# Altium integrated library BB Converter Digital to Analog.IntLib: 269 symbols (part 5 of 6)
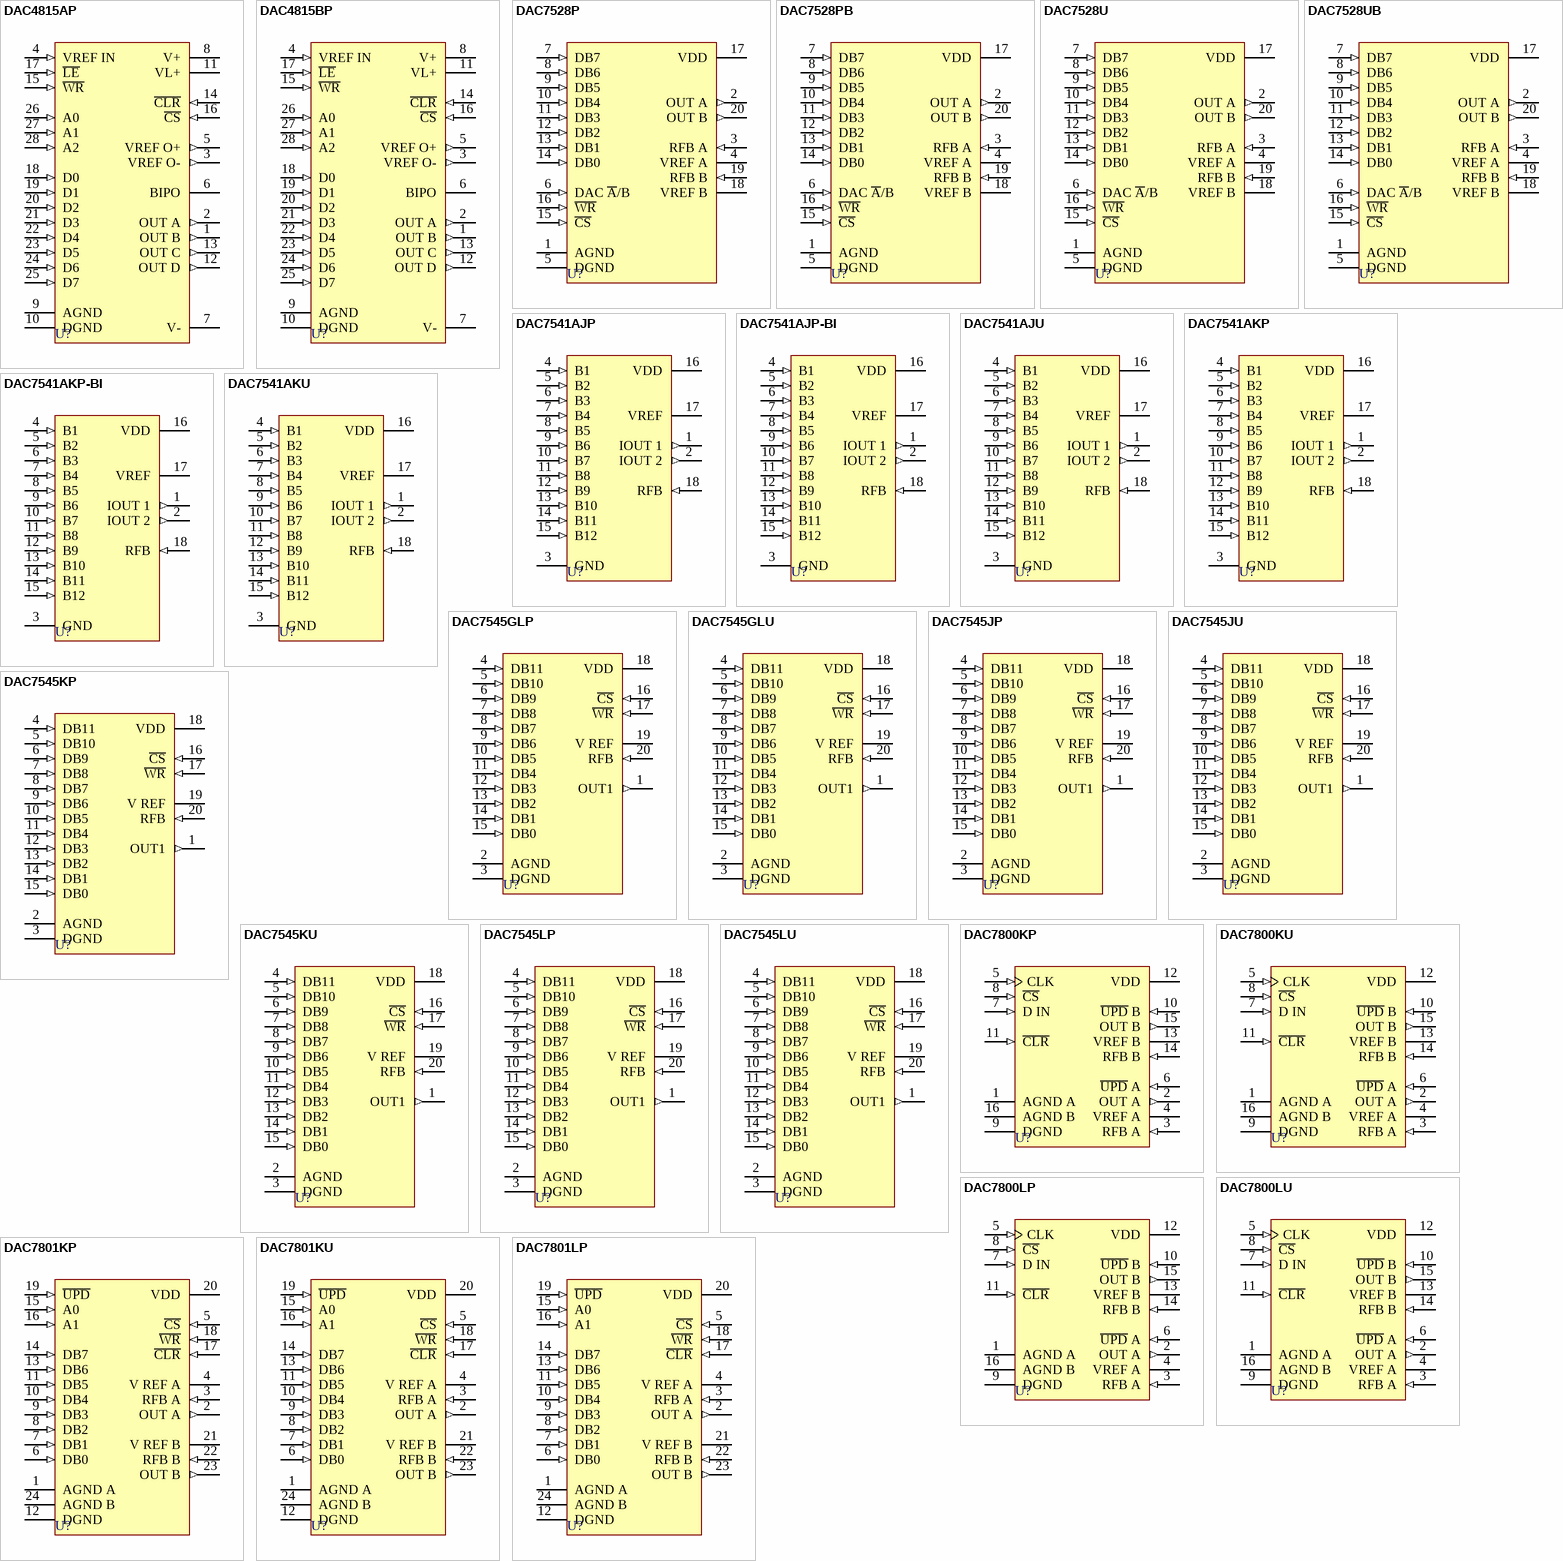
[diagram p14: symbols DAC4815AP to DAC7801LP]

## DAC7800LP
designator U?
Dual Monolithic CMOS 12-Bit Multiplying Digital-to-Analog Converters; Published: 8-Jun-2000; LatestRevisionDate: 06-Jun-2005; LatestRevisionNote: Stylized 3D Model Added.; DatasheetVersion: Jan-1998; PackageVersion: revF; PackageReference: ZZ180; Publisher: Altium Limited; PackageDescription: DIP, Plastic; 16 Leads; Row Spacing 7.62 mm; Pitch 2.54 mm; Code_JEDEC: MS-001-BB; ComponentLink1Description: Manufacturer Link; ComponentLink1URL: http://www.ti.com/; ComponentLink2Description: Datasheet; ComponentLink2URL: http://www-s.ti.com/sc/ds/DAC7800.pdf
footprint ZZ180 (DIP, Plastic; 16 Leads; Row Spacing 7.62 mm; Pitch 2.54 mm)
3D model ZZ180 (DIP, Plastic; 16 Leads; Row Spacing 7.62 mm; Pitch 2.54 mm)
pins: 1 AGND A (power), 2 OUT A (out), 3 RFB A (in), 4 VREF A, 5 CLK (in), 6 ~{UPD} A (in), 7 D IN (in), 8 ~{CS} (in), 9 DGND (power), 10 ~{UPD} B (in), 11 ~{CLR} (in), 12 VDD (power), 13 VREF B, 14 RFB B (in), 15 OUT B (out), 16 AGND B (power)

## DAC7800LU
designator U?
Dual Monolithic CMOS 12-Bit Multiplying Digital-to-Analog Converters; Published: 8-Jun-2000; LatestRevisionDate: 13-Apr-2006; LatestRevisionNote: IPC-7351 Footprint Added.; DatasheetVersion: Jan-1998; PackageReference: 211F; Publisher: Altium Limited; PackageDescription: 16-Pin Small Outline Integrated Circuit 1.27 mm Pitch; Code_JEDEC: MS-013-AA; Code_IPC: SOIC127P1030-16; ComponentLink1Description: Manufacturer Link; ComponentLink1URL: http://www.ti.com/; ComponentLink2Description: Datasheet; ComponentLink2URL: http://www-s.ti.com/sc/ds/DAC7800.pdf
footprint 211F_N (SOIC, 16-Leads, Body 10.3x7.5mm, Pitch 1.27mm, IPC Medium Density)
footprint 211F_L (SOIC, 16-Leads, Body 10.3x7.5mm, Pitch 1.27mm, IPC High Density)
footprint 211F_M (SOIC, 16-Leads, Body 10.3x7.5mm, Pitch 1.27mm, IPC Low Density)
3D model SOIC16 (16-Pin Small Outline Integrated Circuit 1.27 mm Pitch)
pins: 1 AGND A (power), 2 OUT A (out), 3 RFB A (in), 4 VREF A, 5 CLK (in), 6 ~{UPD} A (in), 7 D IN (in), 8 ~{CS} (in), 9 DGND (power), 10 ~{UPD} B (in), 11 ~{CLR} (in), 12 VDD (power), 13 VREF B, 14 RFB B (in), 15 OUT B (out), 16 AGND B (power)

## DAC7801KP
designator U?
Dual Monolithic CMOS 12-Bit Multiplying Digital-to-Analog Converters; Published: 8-Jun-2000; LatestRevisionDate: 06-Jun-2005; LatestRevisionNote: Stylized 3D Model Added.; DatasheetVersion: Jan-1998; PackageVersion: revD; PackageReference: 243D; Publisher: Altium Limited; PackageDescription: DIP; 24 Leads; Row Spacing 7.62 mm; Pitch 2.54 mm; Code_JEDEC: MS-001-AF; ComponentLink1Description: Manufacturer Link; ComponentLink1URL: http://www.ti.com/; ComponentLink2Description: Datasheet; ComponentLink2URL: http://www-s.ti.com/sc/ds/DAC7800.pdf
footprint 243D (DIP; 24 Leads; Row Spacing 7.62 mm; Pitch 2.54 mm)
3D model 243 (DIP; 24 Leads; Row Spacing 7.62 mm; Pitch 2.54 mm)
pins: 1 AGND A (power), 2 OUT A (out), 3 RFB A (in), 4 V REF A, 5 ~{CS} (in), 6 DB0 (in), 7 DB1 (in), 8 DB2 (in), 9 DB3 (in), 10 DB4 (in), 11 DB5 (in), 12 DGND (power), 13 DB6 (in), 14 DB7 (in), 15 A0 (in), 16 A1 (in), 17 ~{CLR} (in), 18 ~{WR} (in), 19 ~{UPD} (in), 20 VDD (power), 21 V REF B, 22 RFB B (in), 23 OUT B (out), 24 AGND B (power)

## DAC7801KU
designator U?
Dual Monolithic CMOS 12-Bit Multiplying Digital-to-Analog Converters; Published: 8-Jun-2000; LatestRevisionDate: 13-Apr-2006; LatestRevisionNote: IPC-7351 Footprint Added.; DatasheetVersion: Jan-1998; PackageReference: 239E; Publisher: Altium Limited; PackageDescription: 24-Pin Small Outline Integrated Circuit 1.27 mm Pitch; ComponentLink1Description: Manufacturer Link; ComponentLink1URL: http://www.ti.com/; ComponentLink2Description: Datasheet; ComponentLink2URL: http://www-s.ti.com/sc/ds/DAC7800.pdf
footprint 239E_N (SOIC, 24-Leads, Body 15.4x7.5mm, Pitch 1.27mm, IPC Medium Density)
footprint 239E_L (SOIC, 24-Leads, Body 15.4x7.5mm, Pitch 1.27mm, IPC High Density)
footprint 239E_M (SOIC, 24-Leads, Body 15.4x7.5mm, Pitch 1.27mm, IPC Low Density)
3D model 239 (24-Pin Small Outline Integrated Circuit 1.27 mm Pitch)
pins: 1 AGND A (power), 2 OUT A (out), 3 RFB A (in), 4 V REF A, 5 ~{CS} (in), 6 DB0 (in), 7 DB1 (in), 8 DB2 (in), 9 DB3 (in), 10 DB4 (in), 11 DB5 (in), 12 DGND (power), 13 DB6 (in), 14 DB7 (in), 15 A0 (in), 16 A1 (in), 17 ~{CLR} (in), 18 ~{WR} (in), 19 ~{UPD} (in), 20 VDD (power), 21 V REF B, 22 RFB B (in), 23 OUT B (out), 24 AGND B (power)

## DAC7801LP
designator U?
Dual Monolithic CMOS 12-Bit Multiplying Digital-to-Analog Converters; Published: 8-Jun-2000; LatestRevisionDate: 06-Jun-2005; LatestRevisionNote: Stylized 3D Model Added.; DatasheetVersion: Jan-1998; PackageVersion: revD; PackageReference: 243D; Publisher: Altium Limited; PackageDescription: DIP; 24 Leads; Row Spacing 7.62 mm; Pitch 2.54 mm; Code_JEDEC: MS-001-AF; ComponentLink1Description: Manufacturer Link; ComponentLink1URL: http://www.ti.com/; ComponentLink2Description: Datasheet; ComponentLink2URL: http://www-s.ti.com/sc/ds/DAC7800.pdf
footprint 243D (DIP; 24 Leads; Row Spacing 7.62 mm; Pitch 2.54 mm)
3D model 243 (DIP; 24 Leads; Row Spacing 7.62 mm; Pitch 2.54 mm)
pins: 1 AGND A (power), 2 OUT A (out), 3 RFB A (in), 4 V REF A, 5 ~{CS} (in), 6 DB0 (in), 7 DB1 (in), 8 DB2 (in), 9 DB3 (in), 10 DB4 (in), 11 DB5 (in), 12 DGND (power), 13 DB6 (in), 14 DB7 (in), 15 A0 (in), 16 A1 (in), 17 ~{CLR} (in), 18 ~{WR} (in), 19 ~{UPD} (in), 20 VDD (power), 21 V REF B, 22 RFB B (in), 23 OUT B (out), 24 AGND B (power)

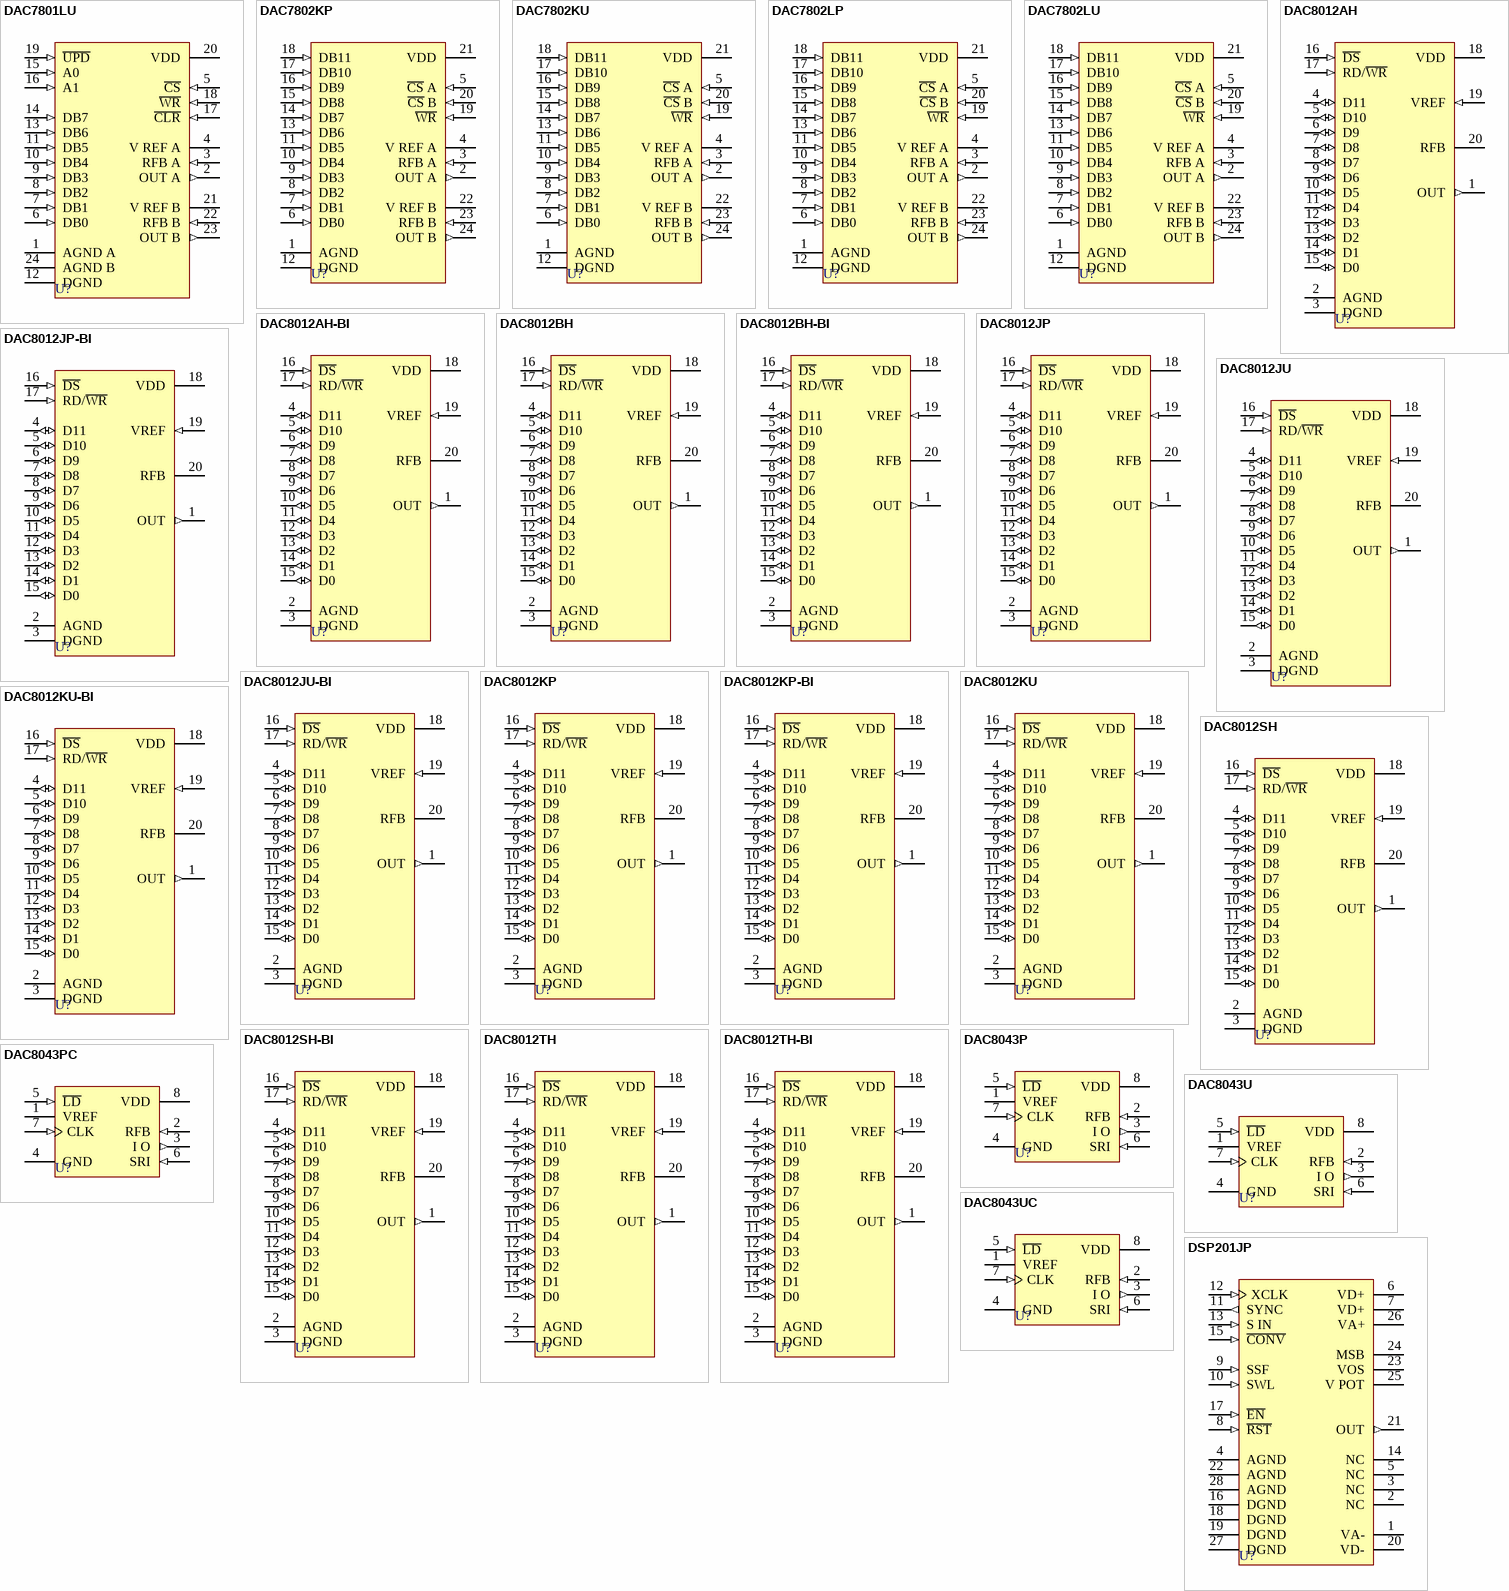
[diagram p8: symbols DAC7801LU to DSP201JP]

## DAC7801LU
designator U?
Dual Monolithic CMOS 12-Bit Multiplying Digital-to-Analog Converters; Published: 8-Jun-2000; LatestRevisionDate: 13-Apr-2006; LatestRevisionNote: IPC-7351 Footprint Added.; DatasheetVersion: Jan-1998; PackageReference: 239E; Publisher: Altium Limited; PackageDescription: 24-Pin Small Outline Integrated Circuit 1.27 mm Pitch; ComponentLink1Description: Manufacturer Link; ComponentLink1URL: http://www.ti.com/; ComponentLink2Description: Datasheet; ComponentLink2URL: http://www-s.ti.com/sc/ds/DAC7800.pdf
footprint 239E_N (SOIC, 24-Leads, Body 15.4x7.5mm, Pitch 1.27mm, IPC Medium Density)
footprint 239E_L (SOIC, 24-Leads, Body 15.4x7.5mm, Pitch 1.27mm, IPC High Density)
footprint 239E_M (SOIC, 24-Leads, Body 15.4x7.5mm, Pitch 1.27mm, IPC Low Density)
3D model 239 (24-Pin Small Outline Integrated Circuit 1.27 mm Pitch)
pins: 1 AGND A (power), 2 OUT A (out), 3 RFB A (in), 4 V REF A, 5 ~{CS} (in), 6 DB0 (in), 7 DB1 (in), 8 DB2 (in), 9 DB3 (in), 10 DB4 (in), 11 DB5 (in), 12 DGND (power), 13 DB6 (in), 14 DB7 (in), 15 A0 (in), 16 A1 (in), 17 ~{CLR} (in), 18 ~{WR} (in), 19 ~{UPD} (in), 20 VDD (power), 21 V REF B, 22 RFB B (in), 23 OUT B (out), 24 AGND B (power)

## DAC7802KP
designator U?
Dual Monolithic CMOS 12-Bit Multiplying Digital-to-Analog Converters; Published: 8-Jun-2000; LatestRevisionDate: 06-Jun-2005; LatestRevisionNote: Stylized 3D Model Added.; DatasheetVersion: Jan-1998; PackageVersion: revA; PackageReference: 243-3A; Publisher: Altium Limited; PackageDescription: DIP; 24 Leads; Row Spacing 7.62 mm; Pitch 2.54 mm; ComponentLink1Description: Manufacturer Link; ComponentLink1URL: http://www.ti.com/; ComponentLink2Description: Datasheet; ComponentLink2URL: http://www-s.ti.com/sc/ds/DAC7800.pdf
footprint 243-3A (DIP; 24 Leads; Row Spacing 7.62 mm; Pitch 2.54 mm)
3D model 243-3A (DIP; 24 Leads; Row Spacing 7.62 mm; Pitch 2.54 mm)
pins: 1 AGND (power), 2 OUT A (out), 3 RFB A (in), 4 V REF A, 5 ~{CS} A (in), 6 DB0 (in), 7 DB1 (in), 8 DB2 (in), 9 DB3 (in), 10 DB4 (in), 11 DB5 (in), 12 DGND (power), 13 DB6 (in), 14 DB7 (in), 15 DB8 (in), 16 DB9 (in), 17 DB10 (in), 18 DB11 (in), 19 ~{WR} (in), 20 ~{CS} B (in), 21 VDD (power), 22 V REF B, 23 RFB B (in), 24 OUT B (out)

## DAC7802KU
designator U?
Dual Monolithic CMOS 12-Bit Multiplying Digital-to-Analog Converters; Published: 8-Jun-2000; LatestRevisionDate: 13-Apr-2006; LatestRevisionNote: IPC-7351 Footprint Added.; DatasheetVersion: Jan-1998; PackageReference: 239E; Publisher: Altium Limited; PackageDescription: 24-Pin Small Outline Integrated Circuit 1.27 mm Pitch; ComponentLink1Description: Manufacturer Link; ComponentLink1URL: http://www.ti.com/; ComponentLink2Description: Datasheet; ComponentLink2URL: http://www-s.ti.com/sc/ds/DAC7800.pdf
footprint 239E_N (SOIC, 24-Leads, Body 15.4x7.5mm, Pitch 1.27mm, IPC Medium Density)
footprint 239E_L (SOIC, 24-Leads, Body 15.4x7.5mm, Pitch 1.27mm, IPC High Density)
footprint 239E_M (SOIC, 24-Leads, Body 15.4x7.5mm, Pitch 1.27mm, IPC Low Density)
3D model 239 (24-Pin Small Outline Integrated Circuit 1.27 mm Pitch)
pins: 1 AGND (power), 2 OUT A (out), 3 RFB A (in), 4 V REF A, 5 ~{CS} A (in), 6 DB0 (in), 7 DB1 (in), 8 DB2 (in), 9 DB3 (in), 10 DB4 (in), 11 DB5 (in), 12 DGND (power), 13 DB6 (in), 14 DB7 (in), 15 DB8 (in), 16 DB9 (in), 17 DB10 (in), 18 DB11 (in), 19 ~{WR} (in), 20 ~{CS} B (in), 21 VDD (power), 22 V REF B, 23 RFB B (in), 24 OUT B (out)

## DAC7802LP
designator U?
Dual Monolithic CMOS 12-Bit Multiplying Digital-to-Analog Converters; Published: 8-Jun-2000; LatestRevisionDate: 06-Jun-2005; LatestRevisionNote: Stylized 3D Model Added.; DatasheetVersion: Jan-1998; PackageVersion: revA; PackageReference: 243-3A; Publisher: Altium Limited; PackageDescription: DIP; 24 Leads; Row Spacing 7.62 mm; Pitch 2.54 mm; ComponentLink1Description: Manufacturer Link; ComponentLink1URL: http://www.ti.com/; ComponentLink2Description: Datasheet; ComponentLink2URL: http://www-s.ti.com/sc/ds/DAC7800.pdf
footprint 243-3A (DIP; 24 Leads; Row Spacing 7.62 mm; Pitch 2.54 mm)
3D model 243-3A (DIP; 24 Leads; Row Spacing 7.62 mm; Pitch 2.54 mm)
pins: 1 AGND (power), 2 OUT A (out), 3 RFB A (in), 4 V REF A, 5 ~{CS} A (in), 6 DB0 (in), 7 DB1 (in), 8 DB2 (in), 9 DB3 (in), 10 DB4 (in), 11 DB5 (in), 12 DGND (power), 13 DB6 (in), 14 DB7 (in), 15 DB8 (in), 16 DB9 (in), 17 DB10 (in), 18 DB11 (in), 19 ~{WR} (in), 20 ~{CS} B (in), 21 VDD (power), 22 V REF B, 23 RFB B (in), 24 OUT B (out)

## DAC7802LU
designator U?
Dual Monolithic CMOS 12-Bit Multiplying Digital-to-Analog Converters; Published: 8-Jun-2000; LatestRevisionDate: 13-Apr-2006; LatestRevisionNote: IPC-7351 Footprint Added.; DatasheetVersion: Jan-1998; PackageReference: 239E; Publisher: Altium Limited; PackageDescription: 24-Pin Small Outline Integrated Circuit 1.27 mm Pitch; ComponentLink1Description: Manufacturer Link; ComponentLink1URL: http://www.ti.com/; ComponentLink2Description: Datasheet; ComponentLink2URL: http://www-s.ti.com/sc/ds/DAC7800.pdf
footprint 239E_N (SOIC, 24-Leads, Body 15.4x7.5mm, Pitch 1.27mm, IPC Medium Density)
footprint 239E_L (SOIC, 24-Leads, Body 15.4x7.5mm, Pitch 1.27mm, IPC High Density)
footprint 239E_M (SOIC, 24-Leads, Body 15.4x7.5mm, Pitch 1.27mm, IPC Low Density)
3D model 239 (24-Pin Small Outline Integrated Circuit 1.27 mm Pitch)
pins: 1 AGND (power), 2 OUT A (out), 3 RFB A (in), 4 V REF A, 5 ~{CS} A (in), 6 DB0 (in), 7 DB1 (in), 8 DB2 (in), 9 DB3 (in), 10 DB4 (in), 11 DB5 (in), 12 DGND (power), 13 DB6 (in), 14 DB7 (in), 15 DB8 (in), 16 DB9 (in), 17 DB10 (in), 18 DB11 (in), 19 ~{WR} (in), 20 ~{CS} B (in), 21 VDD (power), 22 V REF B, 23 RFB B (in), 24 OUT B (out)

## DAC8012AH
designator U?
CMOS 12-Bit Multiplying Digital-to-Analog Converter with Memory; Published: 8-Jun-2000; LatestRevisionDate: 06-Jun-2005; LatestRevisionNote: Stylized 3D Model Added.; DatasheetVersion: 1989; PackageReference: CDIP20; Publisher: Altium Limited; PackageDescription: DIP; 20 Leads; Row Spacing 7.62 mm; Pitch 2.54 mm; Code_JEDEC: MS-015-AE; ComponentLink1Description: Manufacturer Link; ComponentLink1URL: http://www.ti.com/
footprint CDIP20 (DIP; 20 Leads; Row Spacing 7.62 mm; Pitch 2.54 mm)
3D model CDIP20 (DIP; 20 Leads; Row Spacing 7.62 mm; Pitch 2.54 mm)
pins: 1 OUT (out), 2 AGND (power), 3 DGND (power), 4 D11 (io), 5 D10 (io), 6 D9 (io), 7 D8 (io), 8 D7 (io), 9 D6 (io), 10 D5 (io), 11 D4 (io), 12 D3 (io), 13 D2 (io), 14 D1 (io), 15 D0 (io), 16 ~{DS} (in), 17 RD/~{WR} (in), 18 VDD (power), 19 VREF (in), 20 RFB

## DAC8012AH-BI
designator U?
CMOS 12-Bit Multiplying Digital-to-Analog Converter with Memory; Published: 8-Jun-2000; LatestRevisionDate: 06-Jun-2005; LatestRevisionNote: Stylized 3D Model Added.; DatasheetVersion: 1989; PackageReference: CDIP20; Publisher: Altium Limited; PackageDescription: DIP; 20 Leads; Row Spacing 7.62 mm; Pitch 2.54 mm; Code_JEDEC: MS-015-AE; ComponentLink1Description: Manufacturer Link; ComponentLink1URL: http://www.ti.com/
footprint CDIP20 (DIP; 20 Leads; Row Spacing 7.62 mm; Pitch 2.54 mm)
3D model CDIP20 (DIP; 20 Leads; Row Spacing 7.62 mm; Pitch 2.54 mm)
pins: 1 OUT (out), 2 AGND (power), 3 DGND (power), 4 D11 (io), 5 D10 (io), 6 D9 (io), 7 D8 (io), 8 D7 (io), 9 D6 (io), 10 D5 (io), 11 D4 (io), 12 D3 (io), 13 D2 (io), 14 D1 (io), 15 D0 (io), 16 ~{DS} (in), 17 RD/~{WR} (in), 18 VDD (power), 19 VREF (in), 20 RFB

## DAC8012BH
designator U?
CMOS 12-Bit Multiplying Digital-to-Analog Converter with Memory; Published: 8-Jun-2000; LatestRevisionDate: 06-Jun-2005; LatestRevisionNote: Stylized 3D Model Added.; DatasheetVersion: 1989; PackageReference: CDIP20; Publisher: Altium Limited; PackageDescription: DIP; 20 Leads; Row Spacing 7.62 mm; Pitch 2.54 mm; Code_JEDEC: MS-015-AE; ComponentLink1Description: Manufacturer Link; ComponentLink1URL: http://www.ti.com/
footprint CDIP20 (DIP; 20 Leads; Row Spacing 7.62 mm; Pitch 2.54 mm)
3D model CDIP20 (DIP; 20 Leads; Row Spacing 7.62 mm; Pitch 2.54 mm)
pins: 1 OUT (out), 2 AGND (power), 3 DGND (power), 4 D11 (io), 5 D10 (io), 6 D9 (io), 7 D8 (io), 8 D7 (io), 9 D6 (io), 10 D5 (io), 11 D4 (io), 12 D3 (io), 13 D2 (io), 14 D1 (io), 15 D0 (io), 16 ~{DS} (in), 17 RD/~{WR} (in), 18 VDD (power), 19 VREF (in), 20 RFB

## DAC8012BH-BI
designator U?
CMOS 12-Bit Multiplying Digital-to-Analog Converter with Memory; Published: 8-Jun-2000; LatestRevisionDate: 06-Jun-2005; LatestRevisionNote: Stylized 3D Model Added.; DatasheetVersion: 1989; PackageReference: CDIP20; Publisher: Altium Limited; PackageDescription: DIP; 20 Leads; Row Spacing 7.62 mm; Pitch 2.54 mm; Code_JEDEC: MS-015-AE; ComponentLink1Description: Manufacturer Link; ComponentLink1URL: http://www.ti.com/
footprint CDIP20 (DIP; 20 Leads; Row Spacing 7.62 mm; Pitch 2.54 mm)
3D model CDIP20 (DIP; 20 Leads; Row Spacing 7.62 mm; Pitch 2.54 mm)
pins: 1 OUT (out), 2 AGND (power), 3 DGND (power), 4 D11 (io), 5 D10 (io), 6 D9 (io), 7 D8 (io), 8 D7 (io), 9 D6 (io), 10 D5 (io), 11 D4 (io), 12 D3 (io), 13 D2 (io), 14 D1 (io), 15 D0 (io), 16 ~{DS} (in), 17 RD/~{WR} (in), 18 VDD (power), 19 VREF (in), 20 RFB

## DAC8012JP
designator U?
CMOS 12-Bit Multiplying Digital-to-Analog Converter with Memory; Published: 8-Jun-2000; LatestRevisionDate: 06-Jun-2005; LatestRevisionNote: Stylized 3D Model Added.; DatasheetVersion: 1989; PackageReference: PDIP20; Publisher: Altium Limited; PackageDescription: DIP; 20 Leads; Row Spacing 7.62 mm; Pitch 2.54 mm; Code_JEDEC: MS-015-AE; ComponentLink1Description: Manufacturer Link; ComponentLink1URL: http://www.ti.com/
footprint PDIP20 (DIP; 20 Leads; Row Spacing 7.62 mm; Pitch 2.54 mm)
3D model CDIP20 (DIP; 20 Leads; Row Spacing 7.62 mm; Pitch 2.54 mm)
pins: 1 OUT (out), 2 AGND (power), 3 DGND (power), 4 D11 (io), 5 D10 (io), 6 D9 (io), 7 D8 (io), 8 D7 (io), 9 D6 (io), 10 D5 (io), 11 D4 (io), 12 D3 (io), 13 D2 (io), 14 D1 (io), 15 D0 (io), 16 ~{DS} (in), 17 RD/~{WR} (in), 18 VDD (power), 19 VREF (in), 20 RFB

## DAC8012JP-BI
designator U?
CMOS 12-Bit Multiplying Digital-to-Analog Converter with Memory; Published: 8-Jun-2000; LatestRevisionDate: 06-Jun-2005; LatestRevisionNote: Stylized 3D Model Added.; DatasheetVersion: 1989; PackageReference: PDIP20; Publisher: Altium Limited; PackageDescription: DIP; 20 Leads; Row Spacing 7.62 mm; Pitch 2.54 mm; Code_JEDEC: MS-015-AE; ComponentLink1Description: Manufacturer Link; ComponentLink1URL: http://www.ti.com/
footprint PDIP20 (DIP; 20 Leads; Row Spacing 7.62 mm; Pitch 2.54 mm)
3D model CDIP20 (DIP; 20 Leads; Row Spacing 7.62 mm; Pitch 2.54 mm)
pins: 1 OUT (out), 2 AGND (power), 3 DGND (power), 4 D11 (io), 5 D10 (io), 6 D9 (io), 7 D8 (io), 8 D7 (io), 9 D6 (io), 10 D5 (io), 11 D4 (io), 12 D3 (io), 13 D2 (io), 14 D1 (io), 15 D0 (io), 16 ~{DS} (in), 17 RD/~{WR} (in), 18 VDD (power), 19 VREF (in), 20 RFB

## DAC8012JU
designator U?
CMOS 12-Bit Multiplying Digital-to-Analog Converter with Memory; Published: 8-Jun-2000; LatestRevisionDate: 13-Apr-2006; LatestRevisionNote: IPC-7351 Footprint Added.; DatasheetVersion: 1989; PackageReference: SOIC20; Publisher: Altium Limited; PackageDescription: 20-Pin Plastic Small Outline Integrated Circuit 1.27 mm Pitch; Code_IPC: SOIC127P1030-20; ComponentLink1Description: Manufacturer Link; ComponentLink1URL: http://www.ti.com/
footprint SOIC20_N (SOIC, 20-Leads, Body 13x7.5mm, Pitch 1.27mm, IPC Medium Density)
footprint SOIC20_L (SOIC, 20-Leads, Body 13x7.5mm, Pitch 1.27mm, IPC High Density)
footprint SOIC20_M (SOIC, 20-Leads, Body 13x7.5mm, Pitch 1.27mm, IPC Low Density)
3D model SOIC20 (20-Pin Plastic Small Outline Integrated Circuit 1.27 mm Pitch)
pins: 1 OUT (out), 2 AGND (power), 3 DGND (power), 4 D11 (io), 5 D10 (io), 6 D9 (io), 7 D8 (io), 8 D7 (io), 9 D6 (io), 10 D5 (io), 11 D4 (io), 12 D3 (io), 13 D2 (io), 14 D1 (io), 15 D0 (io), 16 ~{DS} (in), 17 RD/~{WR} (in), 18 VDD (power), 19 VREF (in), 20 RFB

## DAC8012JU-BI
designator U?
CMOS 12-Bit Multiplying Digital-to-Analog Converter with Memory; Published: 8-Jun-2000; LatestRevisionDate: 13-Apr-2006; LatestRevisionNote: IPC-7351 Footprint Added.; DatasheetVersion: 1989; PackageReference: SOIC20; Publisher: Altium Limited; PackageDescription: 20-Pin Plastic Small Outline Integrated Circuit 1.27 mm Pitch; Code_IPC: SOIC127P1030-20; ComponentLink1Description: Manufacturer Link; ComponentLink1URL: http://www.ti.com/
footprint SOIC20_N (SOIC, 20-Leads, Body 13x7.5mm, Pitch 1.27mm, IPC Medium Density)
footprint SOIC20_L (SOIC, 20-Leads, Body 13x7.5mm, Pitch 1.27mm, IPC High Density)
footprint SOIC20_M (SOIC, 20-Leads, Body 13x7.5mm, Pitch 1.27mm, IPC Low Density)
3D model SOIC20 (20-Pin Plastic Small Outline Integrated Circuit 1.27 mm Pitch)
pins: 1 OUT (out), 2 AGND (power), 3 DGND (power), 4 D11 (io), 5 D10 (io), 6 D9 (io), 7 D8 (io), 8 D7 (io), 9 D6 (io), 10 D5 (io), 11 D4 (io), 12 D3 (io), 13 D2 (io), 14 D1 (io), 15 D0 (io), 16 ~{DS} (in), 17 RD/~{WR} (in), 18 VDD (power), 19 VREF (in), 20 RFB

## DAC8012KP
designator U?
CMOS 12-Bit Multiplying Digital-to-Analog Converter with Memory; Published: 8-Jun-2000; LatestRevisionDate: 06-Jun-2005; LatestRevisionNote: Stylized 3D Model Added.; DatasheetVersion: 1989; PackageReference: PDIP20; Publisher: Altium Limited; PackageDescription: DIP; 20 Leads; Row Spacing 7.62 mm; Pitch 2.54 mm; Code_JEDEC: MS-015-AE; ComponentLink1Description: Manufacturer Link; ComponentLink1URL: http://www.ti.com/
footprint PDIP20 (DIP; 20 Leads; Row Spacing 7.62 mm; Pitch 2.54 mm)
3D model CDIP20 (DIP; 20 Leads; Row Spacing 7.62 mm; Pitch 2.54 mm)
pins: 1 OUT (out), 2 AGND (power), 3 DGND (power), 4 D11 (io), 5 D10 (io), 6 D9 (io), 7 D8 (io), 8 D7 (io), 9 D6 (io), 10 D5 (io), 11 D4 (io), 12 D3 (io), 13 D2 (io), 14 D1 (io), 15 D0 (io), 16 ~{DS} (in), 17 RD/~{WR} (in), 18 VDD (power), 19 VREF (in), 20 RFB

## DAC8012KP-BI
designator U?
CMOS 12-Bit Multiplying Digital-to-Analog Converter with Memory; Published: 8-Jun-2000; LatestRevisionDate: 06-Jun-2005; LatestRevisionNote: Stylized 3D Model Added.; DatasheetVersion: 1989; PackageReference: PDIP20; Publisher: Altium Limited; PackageDescription: DIP; 20 Leads; Row Spacing 7.62 mm; Pitch 2.54 mm; Code_JEDEC: MS-015-AE; ComponentLink1Description: Manufacturer Link; ComponentLink1URL: http://www.ti.com/
footprint PDIP20 (DIP; 20 Leads; Row Spacing 7.62 mm; Pitch 2.54 mm)
3D model CDIP20 (DIP; 20 Leads; Row Spacing 7.62 mm; Pitch 2.54 mm)
pins: 1 OUT (out), 2 AGND (power), 3 DGND (power), 4 D11 (io), 5 D10 (io), 6 D9 (io), 7 D8 (io), 8 D7 (io), 9 D6 (io), 10 D5 (io), 11 D4 (io), 12 D3 (io), 13 D2 (io), 14 D1 (io), 15 D0 (io), 16 ~{DS} (in), 17 RD/~{WR} (in), 18 VDD (power), 19 VREF (in), 20 RFB

## DAC8012KU
designator U?
CMOS 12-Bit Multiplying Digital-to-Analog Converter with Memory; Published: 8-Jun-2000; LatestRevisionDate: 13-Apr-2006; LatestRevisionNote: IPC-7351 Footprint Added.; DatasheetVersion: 1989; PackageReference: SOIC20; Publisher: Altium Limited; PackageDescription: 20-Pin Plastic Small Outline Integrated Circuit 1.27 mm Pitch; Code_IPC: SOIC127P1030-20; ComponentLink1Description: Manufacturer Link; ComponentLink1URL: http://www.ti.com/
footprint SOIC20_N (SOIC, 20-Leads, Body 13x7.5mm, Pitch 1.27mm, IPC Medium Density)
footprint SOIC20_L (SOIC, 20-Leads, Body 13x7.5mm, Pitch 1.27mm, IPC High Density)
footprint SOIC20_M (SOIC, 20-Leads, Body 13x7.5mm, Pitch 1.27mm, IPC Low Density)
3D model SOIC20 (20-Pin Plastic Small Outline Integrated Circuit 1.27 mm Pitch)
pins: 1 OUT (out), 2 AGND (power), 3 DGND (power), 4 D11 (io), 5 D10 (io), 6 D9 (io), 7 D8 (io), 8 D7 (io), 9 D6 (io), 10 D5 (io), 11 D4 (io), 12 D3 (io), 13 D2 (io), 14 D1 (io), 15 D0 (io), 16 ~{DS} (in), 17 RD/~{WR} (in), 18 VDD (power), 19 VREF (in), 20 RFB

## DAC8012KU-BI
designator U?
CMOS 12-Bit Multiplying Digital-to-Analog Converter with Memory; Published: 8-Jun-2000; LatestRevisionDate: 13-Apr-2006; LatestRevisionNote: IPC-7351 Footprint Added.; DatasheetVersion: 1989; PackageReference: SOIC20; Publisher: Altium Limited; PackageDescription: 20-Pin Plastic Small Outline Integrated Circuit 1.27 mm Pitch; Code_IPC: SOIC127P1030-20; ComponentLink1Description: Manufacturer Link; ComponentLink1URL: http://www.ti.com/
footprint SOIC20_N (SOIC, 20-Leads, Body 13x7.5mm, Pitch 1.27mm, IPC Medium Density)
footprint SOIC20_L (SOIC, 20-Leads, Body 13x7.5mm, Pitch 1.27mm, IPC High Density)
footprint SOIC20_M (SOIC, 20-Leads, Body 13x7.5mm, Pitch 1.27mm, IPC Low Density)
3D model SOIC20 (20-Pin Plastic Small Outline Integrated Circuit 1.27 mm Pitch)
pins: 1 OUT (out), 2 AGND (power), 3 DGND (power), 4 D11 (io), 5 D10 (io), 6 D9 (io), 7 D8 (io), 8 D7 (io), 9 D6 (io), 10 D5 (io), 11 D4 (io), 12 D3 (io), 13 D2 (io), 14 D1 (io), 15 D0 (io), 16 ~{DS} (in), 17 RD/~{WR} (in), 18 VDD (power), 19 VREF (in), 20 RFB

## DAC8012SH
designator U?
CMOS 12-Bit Multiplying Digital-to-Analog Converter with Memory; Published: 8-Jun-2000; LatestRevisionDate: 06-Jun-2005; LatestRevisionNote: Stylized 3D Model Added.; DatasheetVersion: 1989; PackageReference: CDIP20; Publisher: Altium Limited; PackageDescription: DIP; 20 Leads; Row Spacing 7.62 mm; Pitch 2.54 mm; Code_JEDEC: MS-015-AE; ComponentLink1Description: Manufacturer Link; ComponentLink1URL: http://www.ti.com/
footprint CDIP20 (DIP; 20 Leads; Row Spacing 7.62 mm; Pitch 2.54 mm)
3D model CDIP20 (DIP; 20 Leads; Row Spacing 7.62 mm; Pitch 2.54 mm)
pins: 1 OUT (out), 2 AGND (power), 3 DGND (power), 4 D11 (io), 5 D10 (io), 6 D9 (io), 7 D8 (io), 8 D7 (io), 9 D6 (io), 10 D5 (io), 11 D4 (io), 12 D3 (io), 13 D2 (io), 14 D1 (io), 15 D0 (io), 16 ~{DS} (in), 17 RD/~{WR} (in), 18 VDD (power), 19 VREF (in), 20 RFB

## DAC8012SH-BI
designator U?
CMOS 12-Bit Multiplying Digital-to-Analog Converter with Memory; Published: 8-Jun-2000; LatestRevisionDate: 06-Jun-2005; LatestRevisionNote: Stylized 3D Model Added.; DatasheetVersion: 1989; PackageReference: CDIP20; Publisher: Altium Limited; PackageDescription: DIP; 20 Leads; Row Spacing 7.62 mm; Pitch 2.54 mm; Code_JEDEC: MS-015-AE; ComponentLink1Description: Manufacturer Link; ComponentLink1URL: http://www.ti.com/
footprint CDIP20 (DIP; 20 Leads; Row Spacing 7.62 mm; Pitch 2.54 mm)
3D model CDIP20 (DIP; 20 Leads; Row Spacing 7.62 mm; Pitch 2.54 mm)
pins: 1 OUT (out), 2 AGND (power), 3 DGND (power), 4 D11 (io), 5 D10 (io), 6 D9 (io), 7 D8 (io), 8 D7 (io), 9 D6 (io), 10 D5 (io), 11 D4 (io), 12 D3 (io), 13 D2 (io), 14 D1 (io), 15 D0 (io), 16 ~{DS} (in), 17 RD/~{WR} (in), 18 VDD (power), 19 VREF (in), 20 RFB

## DAC8012TH
designator U?
CMOS 12-Bit Multiplying Digital-to-Analog Converter with Memory; Published: 8-Jun-2000; LatestRevisionDate: 06-Jun-2005; LatestRevisionNote: Stylized 3D Model Added.; DatasheetVersion: 1989; PackageReference: CDIP20; Publisher: Altium Limited; PackageDescription: DIP; 20 Leads; Row Spacing 7.62 mm; Pitch 2.54 mm; Code_JEDEC: MS-015-AE; ComponentLink1Description: Manufacturer Link; ComponentLink1URL: http://www.ti.com/
footprint CDIP20 (DIP; 20 Leads; Row Spacing 7.62 mm; Pitch 2.54 mm)
3D model CDIP20 (DIP; 20 Leads; Row Spacing 7.62 mm; Pitch 2.54 mm)
pins: 1 OUT (out), 2 AGND (power), 3 DGND (power), 4 D11 (io), 5 D10 (io), 6 D9 (io), 7 D8 (io), 8 D7 (io), 9 D6 (io), 10 D5 (io), 11 D4 (io), 12 D3 (io), 13 D2 (io), 14 D1 (io), 15 D0 (io), 16 ~{DS} (in), 17 RD/~{WR} (in), 18 VDD (power), 19 VREF (in), 20 RFB

## DAC8012TH-BI
designator U?
CMOS 12-Bit Multiplying Digital-to-Analog Converter with Memory; Published: 8-Jun-2000; LatestRevisionDate: 06-Jun-2005; LatestRevisionNote: Stylized 3D Model Added.; DatasheetVersion: 1989; PackageReference: CDIP20; Publisher: Altium Limited; PackageDescription: DIP; 20 Leads; Row Spacing 7.62 mm; Pitch 2.54 mm; Code_JEDEC: MS-015-AE; ComponentLink1Description: Manufacturer Link; ComponentLink1URL: http://www.ti.com/
footprint CDIP20 (DIP; 20 Leads; Row Spacing 7.62 mm; Pitch 2.54 mm)
3D model CDIP20 (DIP; 20 Leads; Row Spacing 7.62 mm; Pitch 2.54 mm)
pins: 1 OUT (out), 2 AGND (power), 3 DGND (power), 4 D11 (io), 5 D10 (io), 6 D9 (io), 7 D8 (io), 8 D7 (io), 9 D6 (io), 10 D5 (io), 11 D4 (io), 12 D3 (io), 13 D2 (io), 14 D1 (io), 15 D0 (io), 16 ~{DS} (in), 17 RD/~{WR} (in), 18 VDD (power), 19 VREF (in), 20 RFB

## DAC8043P
designator U?
CMOS 12-Bit Serial Input Multiplying Digital-to-Analog Converter; Published: 8-Jun-2000; LatestRevisionDate: 06-Jun-2005; LatestRevisionNote: Stylized 3D Model Added.; DatasheetVersion: 1996~1997; PackageVersion: revE; PackageReference: 006E; Publisher: Altium Limited; PackageDescription: DIP; 8 Leads; Row Spacing 7.62 mm; Pitch 2.54 mm; ComponentLink1Description: Manufacturer Link; ComponentLink1URL: http://www.ti.com/
footprint 006E (DIP; 8 Leads; Row Spacing 7.62 mm; Pitch 2.54 mm)
3D model DIP8 (DIP; 8 Leads; Row Spacing 7.62 mm; Pitch 2.54 mm)
pins: 1 VREF, 2 RFB (in), 3 I O (out), 4 GND (power), 5 ~{LD} (in), 6 SRI (in), 7 CLK (in), 8 VDD (power)

## DAC8043PC
designator U?
CMOS 12-Bit Serial Input Multiplying Digital-to-Analog Converter; Published: 8-Jun-2000; LatestRevisionDate: 06-Jun-2005; LatestRevisionNote: Stylized 3D Model Added.; DatasheetVersion: 1996~1997; PackageVersion: revE; PackageReference: 006E; Publisher: Altium Limited; PackageDescription: DIP; 8 Leads; Row Spacing 7.62 mm; Pitch 2.54 mm; ComponentLink1Description: Manufacturer Link; ComponentLink1URL: http://www.ti.com/
footprint 006E (DIP; 8 Leads; Row Spacing 7.62 mm; Pitch 2.54 mm)
3D model DIP8 (DIP; 8 Leads; Row Spacing 7.62 mm; Pitch 2.54 mm)
pins: 1 VREF, 2 RFB (in), 3 I O (out), 4 GND (power), 5 ~{LD} (in), 6 SRI (in), 7 CLK (in), 8 VDD (power)

## DAC8043U
designator U?
CMOS 12-Bit Serial Input Multiplying Digital-to-Analog Converter; Published: 8-Jun-2000; LatestRevisionDate: 13-Apr-2006; LatestRevisionNote: IPC-7351 Footprint Added.; DatasheetVersion: Mar-1998; PackageReference: 182H; Publisher: Altium Limited; PackageDescription: 8-Pin Small Outline Integrated Circuit 1.27 mm Pitch; Code_JEDEC: MS-012-AA; Code_IPC: SOIC127P600-8; ComponentLink1Description: Manufacturer Link; ComponentLink1URL: http://www.ti.com/; ComponentLink2Description: Datasheet; ComponentLink2URL: http://www-s.ti.com/sc/ds/DAC8043.pdf
footprint 182H_N (SOIC, 8-Leads, Body 4.9x3.9mm, Pitch 1.27mm, IPC Medium Density)
footprint 182H_L (SOIC, 8-Leads, Body 4.9x3.9mm, Pitch 1.27mm, IPC High Density)
footprint 182H_M (SOIC, 8-Leads, Body 4.9x3.9mm, Pitch 1.27mm, IPC Low Density)
3D model SOIC8 (8-Pin Small Outline Integrated Circuit 1.27 mm Pitch)
pins: 1 VREF, 2 RFB (in), 3 I O (out), 4 GND (power), 5 ~{LD} (in), 6 SRI (in), 7 CLK (in), 8 VDD (power)

## DAC8043UC
designator U?
CMOS 12-Bit Serial Input Multiplying Digital-to-Analog Converter; Published: 8-Jun-2000; LatestRevisionDate: 13-Apr-2006; LatestRevisionNote: IPC-7351 Footprint Added.; DatasheetVersion: Mar-1998; PackageReference: 182H; Publisher: Altium Limited; PackageDescription: 8-Pin Small Outline Integrated Circuit 1.27 mm Pitch; Code_JEDEC: MS-012-AA; Code_IPC: SOIC127P600-8; ComponentLink1Description: Manufacturer Link; ComponentLink1URL: http://www.ti.com/; ComponentLink2Description: Datasheet; ComponentLink2URL: http://www-s.ti.com/sc/ds/DAC8043.pdf
footprint 182H_N (SOIC, 8-Leads, Body 4.9x3.9mm, Pitch 1.27mm, IPC Medium Density)
footprint 182H_L (SOIC, 8-Leads, Body 4.9x3.9mm, Pitch 1.27mm, IPC High Density)
footprint 182H_M (SOIC, 8-Leads, Body 4.9x3.9mm, Pitch 1.27mm, IPC Low Density)
3D model SOIC8 (8-Pin Small Outline Integrated Circuit 1.27 mm Pitch)
pins: 1 VREF, 2 RFB (in), 3 I O (out), 4 GND (power), 5 ~{LD} (in), 6 SRI (in), 7 CLK (in), 8 VDD (power)

## DSP201JP
designator U?
DSP-Compatible Single Digital-to-Analog Converters; Note: Pins 2, 3, 5 and 14 are No internal Connection (NC) pins.; ComponentAvailability: Obsolete; Published: 8-Jun-2000; LatestRevisionDate: 06-Jun-2005; LatestRevisionNote: Stylized 3D Model Added.; DatasheetVersion: 1996~1997; PackageVersion: revJ; PackageReference: 215J; Publisher: Altium Limited; PackageDescription: DIP; 28 Leads; Row Spacing 15.24 mm; Pitch 2.54 mm; Code_JEDEC: MS-011-AB; ComponentLink1Description: Manufacturer Link; ComponentLink1URL: http://www.ti.com/
footprint 215J (DIP; 28 Leads; Row Spacing 15.24 mm; Pitch 2.54 mm)
3D model 215J (DIP; 28 Leads; Row Spacing 15.24 mm; Pitch 2.54 mm)
pins: 1 VA- (power), 2 NC, 3 NC, 4 AGND (power), 5 NC, 6 VD+ (power), 7 VD+ (power), 8 ~{RST} (in), 9 SSF (in), 10 SWL (in), 11 SYNC (out), 12 XCLK (in), 13 S IN (in), 14 NC, 15 ~{CONV} (in), 16 DGND (power), 17 ~{EN} (in), 18 DGND (power), 19 DGND (power), 20 VD- (power), 21 OUT (out), 22 AGND (power), 23 VOS, 24 MSB, 25 V POT, 26 VA+ (power), 27 DGND (power), 28 AGND (power)

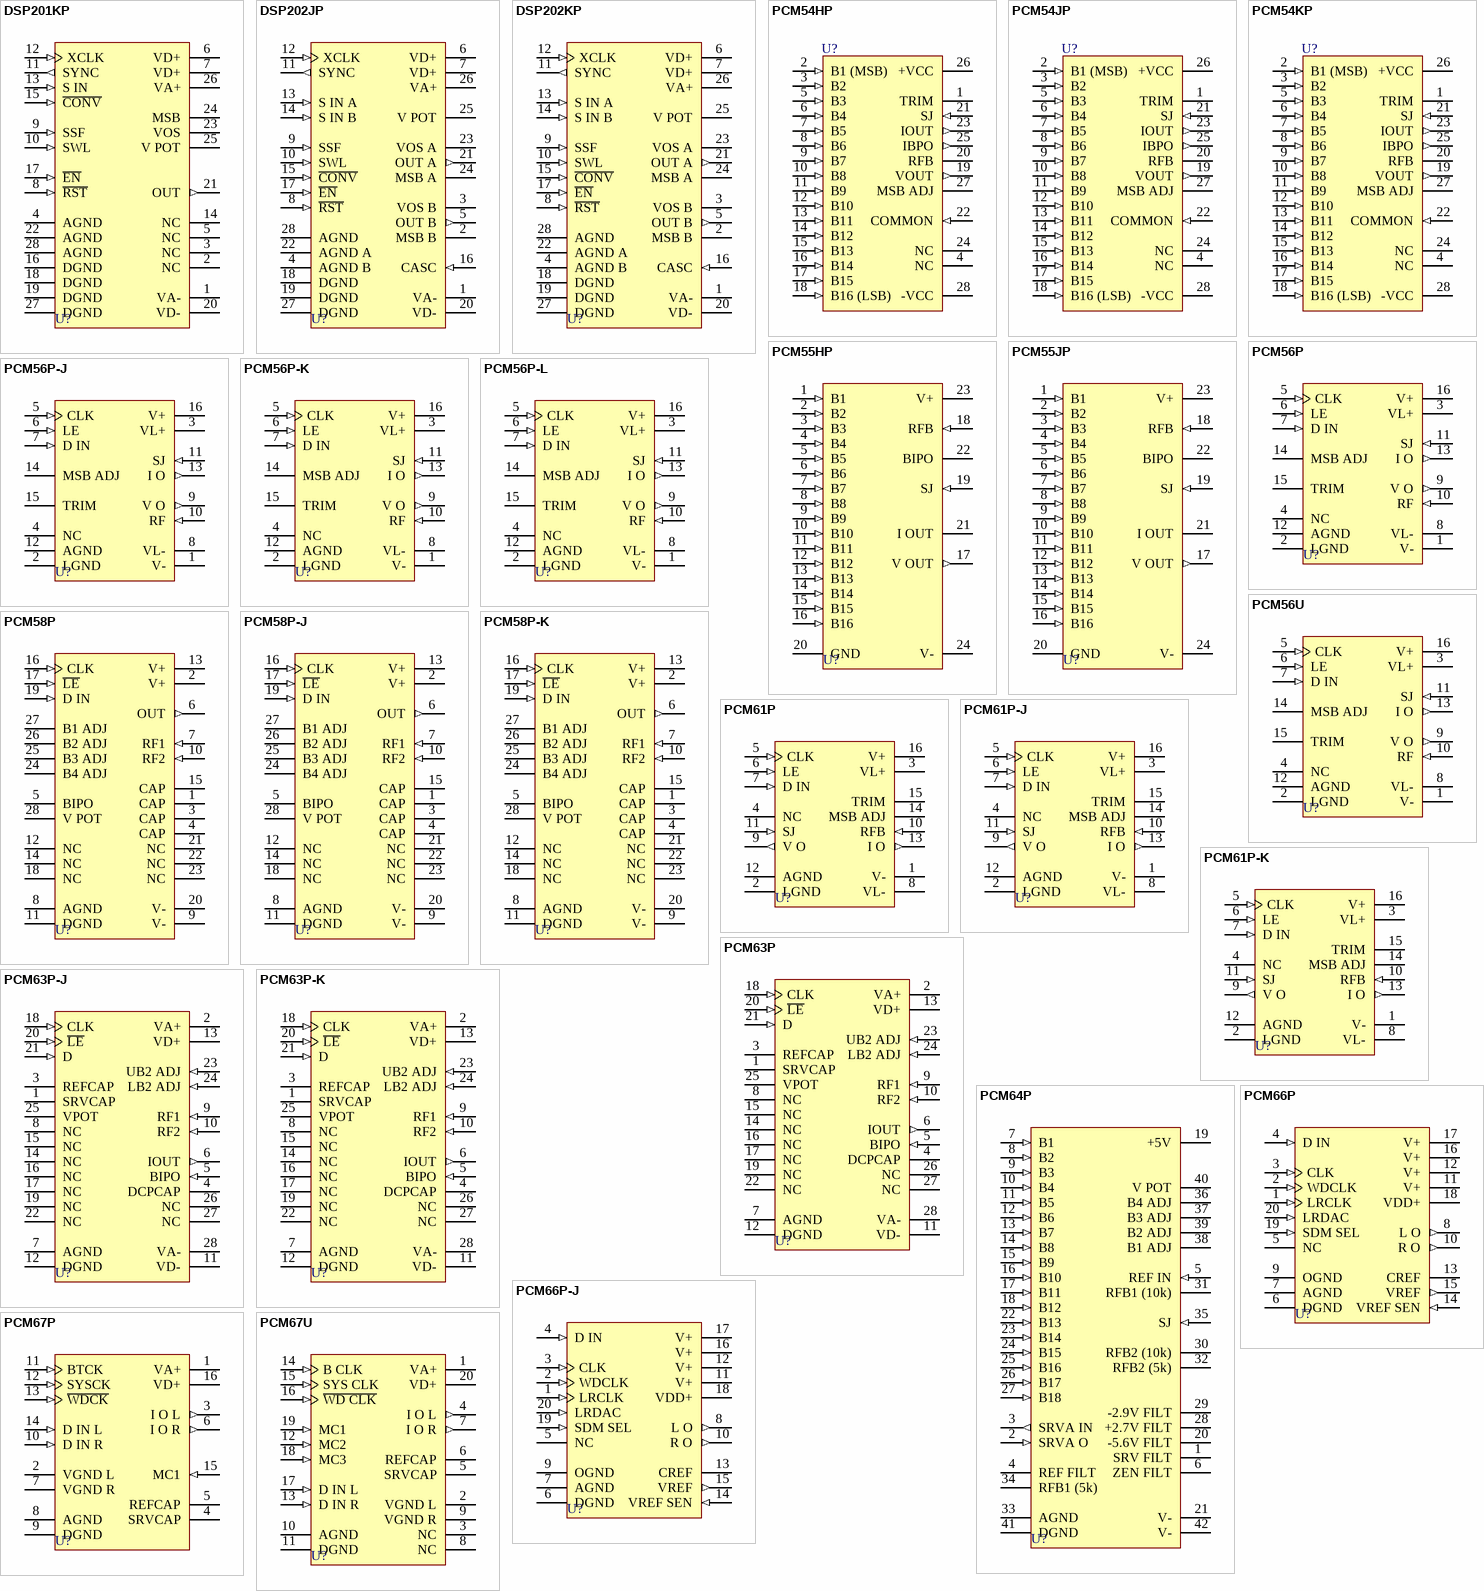
[diagram p9: symbols DSP201KP to PCM67U]

## DSP201KP
designator U?
DSP-Compatible Single Digital-to-Analog Converters; Note: Pins 2, 3, 5 and 14 are No internal Connection (NC) pins.; ComponentAvailability: Obsolete; Published: 8-Jun-2000; LatestRevisionDate: 06-Jun-2005; LatestRevisionNote: Stylized 3D Model Added.; DatasheetVersion: 1996~1997; PackageVersion: revJ; PackageReference: 215J; Publisher: Altium Limited; PackageDescription: DIP; 28 Leads; Row Spacing 15.24 mm; Pitch 2.54 mm; Code_JEDEC: MS-011-AB; ComponentLink1Description: Manufacturer Link; ComponentLink1URL: http://www.ti.com/
footprint 215J (DIP; 28 Leads; Row Spacing 15.24 mm; Pitch 2.54 mm)
3D model 215J (DIP; 28 Leads; Row Spacing 15.24 mm; Pitch 2.54 mm)
pins: 1 VA- (power), 2 NC, 3 NC, 4 AGND (power), 5 NC, 6 VD+ (power), 7 VD+ (power), 8 ~{RST} (in), 9 SSF (in), 10 SWL (in), 11 SYNC (out), 12 XCLK (in), 13 S IN (in), 14 NC, 15 ~{CONV} (in), 16 DGND (power), 17 ~{EN} (in), 18 DGND (power), 19 DGND (power), 20 VD- (power), 21 OUT (out), 22 AGND (power), 23 VOS, 24 MSB, 25 V POT, 26 VA+ (power), 27 DGND (power), 28 AGND (power)

## DSP202JP
designator U?
DSP-Compatible Dual Digital-to-Analog Converters; ComponentAvailability: Obsolete; Published: 8-Jun-2000; LatestRevisionDate: 06-Jun-2005; LatestRevisionNote: Stylized 3D Model Added.; DatasheetVersion: 1996~1997; PackageVersion: revJ; PackageReference: 215J; Publisher: Altium Limited; PackageDescription: DIP; 28 Leads; Row Spacing 15.24 mm; Pitch 2.54 mm; Code_JEDEC: MS-011-AB; ComponentLink1Description: Manufacturer Link; ComponentLink1URL: http://www.ti.com/
footprint 215J (DIP; 28 Leads; Row Spacing 15.24 mm; Pitch 2.54 mm)
3D model 215J (DIP; 28 Leads; Row Spacing 15.24 mm; Pitch 2.54 mm)
pins: 1 VA- (power), 2 MSB B, 3 VOS B, 4 AGND B (power), 5 OUT B (out), 6 VD+ (power), 7 VD+ (power), 8 ~{RST} (in), 9 SSF (in), 10 SWL (in), 11 SYNC (out), 12 XCLK (in), 13 S IN A (in), 14 S IN B (in), 15 ~{CONV} (in), 16 CASC (in), 17 ~{EN} (in), 18 DGND (power), 19 DGND (power), 20 VD- (power), 21 OUT A (out), 22 AGND A (power), 23 VOS A, 24 MSB A, 25 V POT, 26 VA+ (power), 27 DGND (power), 28 AGND (power)

## DSP202KP
designator U?
DSP-Compatible Dual Digital-to-Analog Converters; ComponentAvailability: Obsolete; Published: 8-Jun-2000; LatestRevisionDate: 06-Jun-2005; LatestRevisionNote: Stylized 3D Model Added.; DatasheetVersion: 1996~1997; PackageVersion: revJ; PackageReference: 215J; Publisher: Altium Limited; PackageDescription: DIP; 28 Leads; Row Spacing 15.24 mm; Pitch 2.54 mm; Code_JEDEC: MS-011-AB; ComponentLink1Description: Manufacturer Link; ComponentLink1URL: http://www.ti.com/
footprint 215J (DIP; 28 Leads; Row Spacing 15.24 mm; Pitch 2.54 mm)
3D model 215J (DIP; 28 Leads; Row Spacing 15.24 mm; Pitch 2.54 mm)
pins: 1 VA- (power), 2 MSB B, 3 VOS B, 4 AGND B (power), 5 OUT B (out), 6 VD+ (power), 7 VD+ (power), 8 ~{RST} (in), 9 SSF (in), 10 SWL (in), 11 SYNC (out), 12 XCLK (in), 13 S IN A (in), 14 S IN B (in), 15 ~{CONV} (in), 16 CASC (in), 17 ~{EN} (in), 18 DGND (power), 19 DGND (power), 20 VD- (power), 21 OUT A (out), 22 AGND A (power), 23 VOS A, 24 MSB A, 25 V POT, 26 VA+ (power), 27 DGND (power), 28 AGND (power)

## PCM54HP
designator U?
16-Bit Monolithic Digital-to-Analog Converters; Note: Pin 4 and 24 are No internal Connection (NC) pins.; Published: 8-Jun-2000; LatestRevisionDate: 06-Jun-2005; LatestRevisionNote: Stylized 3D Model Added.; DatasheetVersion: Aug-1998; PackageVersion: revJ; PackageReference: 215J; Publisher: Altium Limited; PackageDescription: DIP; 28 Leads; Row Spacing 15.24 mm; Pitch 2.54 mm; Code_JEDEC: MS-011-AB; ComponentLink1Description: Manufacturer Link; ComponentLink1URL: http://www.ti.com/; ComponentLink2Description: Datasheet; ComponentLink2URL: http://www-s.ti.com/sc/ds/PCM54.pdf
footprint 215J (DIP; 28 Leads; Row Spacing 15.24 mm; Pitch 2.54 mm)
3D model 215J (DIP; 28 Leads; Row Spacing 15.24 mm; Pitch 2.54 mm)
pins: 1 TRIM, 2 B1 (MSB) (in), 3 B2 (in), 4 NC, 5 B3 (in), 6 B4 (in), 7 B5 (in), 8 B6 (in), 9 B7 (in), 10 B8 (in), 11 B9 (in), 12 B10 (in), 13 B11 (in), 14 B12 (in), 15 B13 (in), 16 B14 (in), 17 B15 (in), 18 B16 (LSB) (in), 19 VOUT (out), 20 RFB, 21 SJ (in), 22 COMMON (in), 23 IOUT (out), 24 NC, 25 IBPO (out), 26 +VCC (power), 27 MSB ADJ, 28 -VCC (power)

## PCM54JP
designator U?
16-Bit Monolithic Digital-to-Analog Converters; Note: Pin 4 and 24 are No internal Connection (NC) pins.; Published: 8-Jun-2000; LatestRevisionDate: 06-Jun-2005; LatestRevisionNote: Stylized 3D Model Added.; DatasheetVersion: Aug-1998; PackageVersion: revJ; PackageReference: 215J; Publisher: Altium Limited; PackageDescription: DIP; 28 Leads; Row Spacing 15.24 mm; Pitch 2.54 mm; Code_JEDEC: MS-011-AB; ComponentLink1Description: Manufacturer Link; ComponentLink1URL: http://www.ti.com/; ComponentLink2Description: Datasheet; ComponentLink2URL: http://www-s.ti.com/sc/ds/PCM54.pdf
footprint 215J (DIP; 28 Leads; Row Spacing 15.24 mm; Pitch 2.54 mm)
3D model 215J (DIP; 28 Leads; Row Spacing 15.24 mm; Pitch 2.54 mm)
pins: 1 TRIM, 2 B1 (MSB) (in), 3 B2 (in), 4 NC, 5 B3 (in), 6 B4 (in), 7 B5 (in), 8 B6 (in), 9 B7 (in), 10 B8 (in), 11 B9 (in), 12 B10 (in), 13 B11 (in), 14 B12 (in), 15 B13 (in), 16 B14 (in), 17 B15 (in), 18 B16 (LSB) (in), 19 VOUT (out), 20 RFB, 21 SJ (in), 22 COMMON (in), 23 IOUT (out), 24 NC, 25 IBPO (out), 26 +VCC (power), 27 MSB ADJ, 28 -VCC (power)

## PCM54KP
designator U?
16-Bit Monolithic Digital-to-Analog Converters; Note: Pin 4 and 24 are No internal Connection (NC) pins.; Published: 8-Jun-2000; LatestRevisionDate: 06-Jun-2005; LatestRevisionNote: Stylized 3D Model Added.; DatasheetVersion: Aug-1998; PackageVersion: revJ; PackageReference: 215J; Publisher: Altium Limited; PackageDescription: DIP; 28 Leads; Row Spacing 15.24 mm; Pitch 2.54 mm; Code_JEDEC: MS-011-AB; ComponentLink1Description: Manufacturer Link; ComponentLink1URL: http://www.ti.com/; ComponentLink2Description: Datasheet; ComponentLink2URL: http://www-s.ti.com/sc/ds/PCM54.pdf
footprint 215J (DIP; 28 Leads; Row Spacing 15.24 mm; Pitch 2.54 mm)
3D model 215J (DIP; 28 Leads; Row Spacing 15.24 mm; Pitch 2.54 mm)
pins: 1 TRIM, 2 B1 (MSB) (in), 3 B2 (in), 4 NC, 5 B3 (in), 6 B4 (in), 7 B5 (in), 8 B6 (in), 9 B7 (in), 10 B8 (in), 11 B9 (in), 12 B10 (in), 13 B11 (in), 14 B12 (in), 15 B13 (in), 16 B14 (in), 17 B15 (in), 18 B16 (LSB) (in), 19 VOUT (out), 20 RFB, 21 SJ (in), 22 COMMON (in), 23 IOUT (out), 24 NC, 25 IBPO (out), 26 +VCC (power), 27 MSB ADJ, 28 -VCC (power)

## PCM55HP
designator U?
16-Bit Monolithic Digital-to-Analog Converters; Published: 8-Jun-2000; LatestRevisionDate: 13-Apr-2006; LatestRevisionNote: IPC-7351 Footprint Added.; DatasheetVersion: Aug-1998; PackageReference: 178A; Publisher: Altium Limited; PackageDescription: 24-Pin Small Outline Integrated Circuit 1.27 mm Pitch; ComponentLink1Description: Manufacturer Link; ComponentLink1URL: http://www.ti.com/; ComponentLink2Description: Datasheet; ComponentLink2URL: http://www-s.ti.com/sc/ds/PCM54.pdf
footprint 178A_N (SOIC, 24-Leads, Body 15.8x9mm, Pitch 1.27mm, IPC Medium Density)
footprint 178A_L (SOIC, 24-Leads, Body 15.8x9mm, Pitch 1.27mm, IPC High Density)
footprint 178A_M (SOIC, 24-Leads, Body 15.8x9mm, Pitch 1.27mm, IPC Low Density)
3D model 178A (24-Pin Small Outline Integrated Circuit 1.27 mm Pitch)
pins: 1 B1 (in), 2 B2 (in), 3 B3 (in), 4 B4 (in), 5 B5 (in), 6 B6 (in), 7 B7 (in), 8 B8 (in), 9 B9 (in), 10 B10 (in), 11 B11 (in), 12 B12 (in), 13 B13 (in), 14 B14 (in), 15 B15 (in), 16 B16 (in), 17 V OUT (out), 18 RFB (in), 19 SJ (in), 20 GND (power), 21 I OUT, 22 BIPO, 23 V+ (power), 24 V- (power)

## PCM55JP
designator U?
16-Bit Monolithic Digital-to-Analog Converters; Published: 8-Jun-2000; LatestRevisionDate: 13-Apr-2006; LatestRevisionNote: IPC-7351 Footprint Added.; DatasheetVersion: Aug-1998; PackageReference: 178A; Publisher: Altium Limited; PackageDescription: 24-Pin Small Outline Integrated Circuit 1.27 mm Pitch; ComponentLink1Description: Manufacturer Link; ComponentLink1URL: http://www.ti.com/; ComponentLink2Description: Datasheet; ComponentLink2URL: http://www-s.ti.com/sc/ds/PCM54.pdf
footprint 178A_N (SOIC, 24-Leads, Body 15.8x9mm, Pitch 1.27mm, IPC Medium Density)
footprint 178A_L (SOIC, 24-Leads, Body 15.8x9mm, Pitch 1.27mm, IPC High Density)
footprint 178A_M (SOIC, 24-Leads, Body 15.8x9mm, Pitch 1.27mm, IPC Low Density)
3D model 178A (24-Pin Small Outline Integrated Circuit 1.27 mm Pitch)
pins: 1 B1 (in), 2 B2 (in), 3 B3 (in), 4 B4 (in), 5 B5 (in), 6 B6 (in), 7 B7 (in), 8 B8 (in), 9 B9 (in), 10 B10 (in), 11 B11 (in), 12 B12 (in), 13 B13 (in), 14 B14 (in), 15 B15 (in), 16 B16 (in), 17 V OUT (out), 18 RFB (in), 19 SJ (in), 20 GND (power), 21 I OUT, 22 BIPO, 23 V+ (power), 24 V- (power)

## PCM56P
designator U?
Serial Input 16-Bit Monolithic Digital-to-Analog Converter; Note: Pin 4 is No internal Connection (NC) pin.; Published: 8-Jun-2000; LatestRevisionDate: 06-Jun-2005; LatestRevisionNote: Stylized 3D Model Added.; DatasheetVersion: Aug-1993; PackageVersion: revF; PackageReference: ZZ180; Publisher: Altium Limited; PackageDescription: DIP, Plastic; 16 Leads; Row Spacing 7.62 mm; Pitch 2.54 mm; Code_JEDEC: MS-001-BB; ComponentLink1Description: Manufacturer Link; ComponentLink1URL: http://www.ti.com/; ComponentLink2Description: Datasheet; ComponentLink2URL: http://www-s.ti.com/sc/ds/PCM56.pdf
footprint ZZ180 (DIP, Plastic; 16 Leads; Row Spacing 7.62 mm; Pitch 2.54 mm)
3D model ZZ180 (DIP, Plastic; 16 Leads; Row Spacing 7.62 mm; Pitch 2.54 mm)
pins: 1 V- (power), 2 LGND (power), 3 VL+ (power), 4 NC, 5 CLK (in), 6 LE (in), 7 D IN (in), 8 VL- (power), 9 V O (out), 10 RF (in), 11 SJ (in), 12 AGND (power), 13 I O (out), 14 MSB ADJ, 15 TRIM, 16 V+ (power)

## PCM56P-J
designator U?
Serial Input 16-Bit Monolithic Digital-to-Analog Converter; Note: Pin 4 is No internal Connection (NC) pin.; Published: 8-Jun-2000; LatestRevisionDate: 06-Jun-2005; LatestRevisionNote: Stylized 3D Model Added.; DatasheetVersion: Aug-1993; PackageVersion: revF; PackageReference: ZZ180; Publisher: Altium Limited; PackageDescription: DIP, Plastic; 16 Leads; Row Spacing 7.62 mm; Pitch 2.54 mm; Code_JEDEC: MS-001-BB; ComponentLink1Description: Manufacturer Link; ComponentLink1URL: http://www.ti.com/; ComponentLink2Description: Datasheet; ComponentLink2URL: http://www-s.ti.com/sc/ds/PCM56.pdf
footprint ZZ180 (DIP, Plastic; 16 Leads; Row Spacing 7.62 mm; Pitch 2.54 mm)
3D model ZZ180 (DIP, Plastic; 16 Leads; Row Spacing 7.62 mm; Pitch 2.54 mm)
pins: 1 V- (power), 2 LGND (power), 3 VL+ (power), 4 NC, 5 CLK (in), 6 LE (in), 7 D IN (in), 8 VL- (power), 9 V O (out), 10 RF (in), 11 SJ (in), 12 AGND (power), 13 I O (out), 14 MSB ADJ, 15 TRIM, 16 V+ (power)

## PCM56P-K
designator U?
Serial Input 16-Bit Monolithic Digital-to-Analog Converter; Note: Pin 4 is No internal Connection (NC) pin.; Published: 8-Jun-2000; LatestRevisionDate: 06-Jun-2005; LatestRevisionNote: Stylized 3D Model Added.; DatasheetVersion: Aug-1993; PackageVersion: revF; PackageReference: ZZ180; Publisher: Altium Limited; PackageDescription: DIP, Plastic; 16 Leads; Row Spacing 7.62 mm; Pitch 2.54 mm; Code_JEDEC: MS-001-BB; ComponentLink1Description: Manufacturer Link; ComponentLink1URL: http://www.ti.com/; ComponentLink2Description: Datasheet; ComponentLink2URL: http://www-s.ti.com/sc/ds/PCM56.pdf
footprint ZZ180 (DIP, Plastic; 16 Leads; Row Spacing 7.62 mm; Pitch 2.54 mm)
3D model ZZ180 (DIP, Plastic; 16 Leads; Row Spacing 7.62 mm; Pitch 2.54 mm)
pins: 1 V- (power), 2 LGND (power), 3 VL+ (power), 4 NC, 5 CLK (in), 6 LE (in), 7 D IN (in), 8 VL- (power), 9 V O (out), 10 RF (in), 11 SJ (in), 12 AGND (power), 13 I O (out), 14 MSB ADJ, 15 TRIM, 16 V+ (power)

## PCM56P-L
designator U?
Serial Input 16-Bit Monolithic Digital-to-Analog Converter; Note: Pin 4 is No internal Connection (NC) pin.; Published: 8-Jun-2000; LatestRevisionDate: 06-Jun-2005; LatestRevisionNote: Stylized 3D Model Added.; DatasheetVersion: Aug-1993; PackageVersion: revF; PackageReference: ZZ180; Publisher: Altium Limited; PackageDescription: DIP, Plastic; 16 Leads; Row Spacing 7.62 mm; Pitch 2.54 mm; Code_JEDEC: MS-001-BB; ComponentLink1Description: Manufacturer Link; ComponentLink1URL: http://www.ti.com/; ComponentLink2Description: Datasheet; ComponentLink2URL: http://www-s.ti.com/sc/ds/PCM56.pdf
footprint ZZ180 (DIP, Plastic; 16 Leads; Row Spacing 7.62 mm; Pitch 2.54 mm)
3D model ZZ180 (DIP, Plastic; 16 Leads; Row Spacing 7.62 mm; Pitch 2.54 mm)
pins: 1 V- (power), 2 LGND (power), 3 VL+ (power), 4 NC, 5 CLK (in), 6 LE (in), 7 D IN (in), 8 VL- (power), 9 V O (out), 10 RF (in), 11 SJ (in), 12 AGND (power), 13 I O (out), 14 MSB ADJ, 15 TRIM, 16 V+ (power)

## PCM56U
designator U?
Serial Input 16-Bit Monolithic Digital-to-Analog Converter; Note: Pin 4 is No internal Connection (NC) pin.; Published: 8-Jun-2000; LatestRevisionDate: 13-Apr-2006; LatestRevisionNote: IPC-7351 Footprint Added.; DatasheetVersion: Aug-1993; PackageReference: 211F; Publisher: Altium Limited; PackageDescription: 16-Pin Small Outline Integrated Circuit 1.27 mm Pitch; Code_JEDEC: MS-013-AA; Code_IPC: SOIC127P1030-16; ComponentLink1Description: Manufacturer Link; ComponentLink1URL: http://www.ti.com/; ComponentLink2Description: Datasheet; ComponentLink2URL: http://www-s.ti.com/sc/ds/PCM56.pdf
footprint 211F_N (SOIC, 16-Leads, Body 10.3x7.5mm, Pitch 1.27mm, IPC Medium Density)
footprint 211F_L (SOIC, 16-Leads, Body 10.3x7.5mm, Pitch 1.27mm, IPC High Density)
footprint 211F_M (SOIC, 16-Leads, Body 10.3x7.5mm, Pitch 1.27mm, IPC Low Density)
3D model SOIC16 (16-Pin Small Outline Integrated Circuit 1.27 mm Pitch)
pins: 1 V- (power), 2 LGND (power), 3 VL+ (power), 4 NC, 5 CLK (in), 6 LE (in), 7 D IN (in), 8 VL- (power), 9 V O (out), 10 RF (in), 11 SJ (in), 12 AGND (power), 13 I O (out), 14 MSB ADJ, 15 TRIM, 16 V+ (power)

## PCM58P
designator U?
Precision, 18-Bit Monolithic Audio Digital-to-Analog Converter; Note: Pins 12, 14, 18 and 21 to 23 are No internal Connection (NC) pins.; Published: 8-Jun-2000; LatestRevisionDate: 06-Jun-2005; LatestRevisionNote: Stylized 3D Model Added.; DatasheetVersion: 1994; PackageVersion: revJ; PackageReference: 215J; Publisher: Altium Limited; PackageDescription: DIP; 28 Leads; Row Spacing 15.24 mm; Pitch 2.54 mm; Code_JEDEC: MS-011-AB; ComponentLink1Description: Manufacturer Link; ComponentLink1URL: http://www.ti.com/
footprint 215J (DIP; 28 Leads; Row Spacing 15.24 mm; Pitch 2.54 mm)
3D model 215J (DIP; 28 Leads; Row Spacing 15.24 mm; Pitch 2.54 mm)
pins: 1 CAP, 2 V+ (power), 3 CAP, 4 CAP, 5 BIPO, 6 OUT (out), 7 RF1 (in), 8 AGND (power), 9 V- (power), 10 RF2 (in), 11 DGND (power), 12 NC, 13 V+ (power), 14 NC, 15 CAP, 16 CLK (in), 17 ~{LE} (in), 18 NC, 19 D IN (in), 20 V- (power), 21 NC, 22 NC, 23 NC, 24 B4 ADJ, 25 B3 ADJ, 26 B2 ADJ, 27 B1 ADJ, 28 V POT

## PCM58P-J
designator U?
Precision, 18-Bit Monolithic Audio Digital-to-Analog Converter; Note: Pins 12, 14, 18 and 21 to 23 are No internal Connection (NC) pins.; Published: 8-Jun-2000; LatestRevisionDate: 06-Jun-2005; LatestRevisionNote: Stylized 3D Model Added.; DatasheetVersion: 1994; PackageVersion: revJ; PackageReference: 215J; Publisher: Altium Limited; PackageDescription: DIP; 28 Leads; Row Spacing 15.24 mm; Pitch 2.54 mm; Code_JEDEC: MS-011-AB; ComponentLink1Description: Manufacturer Link; ComponentLink1URL: http://www.ti.com/
footprint 215J (DIP; 28 Leads; Row Spacing 15.24 mm; Pitch 2.54 mm)
3D model 215J (DIP; 28 Leads; Row Spacing 15.24 mm; Pitch 2.54 mm)
pins: 1 CAP, 2 V+ (power), 3 CAP, 4 CAP, 5 BIPO, 6 OUT (out), 7 RF1 (in), 8 AGND (power), 9 V- (power), 10 RF2 (in), 11 DGND (power), 12 NC, 13 V+ (power), 14 NC, 15 CAP, 16 CLK (in), 17 ~{LE} (in), 18 NC, 19 D IN (in), 20 V- (power), 21 NC, 22 NC, 23 NC, 24 B4 ADJ, 25 B3 ADJ, 26 B2 ADJ, 27 B1 ADJ, 28 V POT

## PCM58P-K
designator U?
Precision, 18-Bit Monolithic Audio Digital-to-Analog Converter; Note: Pins 12, 14, 18 and 21 to 23 are No internal Connection (NC) pins.; Published: 8-Jun-2000; LatestRevisionDate: 06-Jun-2005; LatestRevisionNote: Stylized 3D Model Added.; DatasheetVersion: 1994; PackageVersion: revJ; PackageReference: 215J; Publisher: Altium Limited; PackageDescription: DIP; 28 Leads; Row Spacing 15.24 mm; Pitch 2.54 mm; Code_JEDEC: MS-011-AB; ComponentLink1Description: Manufacturer Link; ComponentLink1URL: http://www.ti.com/
footprint 215J (DIP; 28 Leads; Row Spacing 15.24 mm; Pitch 2.54 mm)
3D model 215J (DIP; 28 Leads; Row Spacing 15.24 mm; Pitch 2.54 mm)
pins: 1 CAP, 2 V+ (power), 3 CAP, 4 CAP, 5 BIPO, 6 OUT (out), 7 RF1 (in), 8 AGND (power), 9 V- (power), 10 RF2 (in), 11 DGND (power), 12 NC, 13 V+ (power), 14 NC, 15 CAP, 16 CLK (in), 17 ~{LE} (in), 18 NC, 19 D IN (in), 20 V- (power), 21 NC, 22 NC, 23 NC, 24 B4 ADJ, 25 B3 ADJ, 26 B2 ADJ, 27 B1 ADJ, 28 V POT

## PCM61P
designator U?
Serial Input 18-Bit Monolithic Audio Digital-to-Analog Converter; Note: Pin 4 is No internal Connection (NC) pin.; Published: 8-Jun-2000; LatestRevisionDate: 06-Jun-2005; LatestRevisionNote: Stylized 3D Model Added.; DatasheetVersion: 1994; PackageVersion: revF; PackageReference: ZZ180; Publisher: Altium Limited; PackageDescription: DIP, Plastic; 16 Leads; Row Spacing 7.62 mm; Pitch 2.54 mm; Code_JEDEC: MS-001-BB; ComponentLink1Description: Manufacturer Link; ComponentLink1URL: http://www.ti.com/
footprint ZZ180 (DIP, Plastic; 16 Leads; Row Spacing 7.62 mm; Pitch 2.54 mm)
3D model ZZ180 (DIP, Plastic; 16 Leads; Row Spacing 7.62 mm; Pitch 2.54 mm)
pins: 1 V- (power), 2 LGND (power), 3 VL+ (power), 4 NC, 5 CLK (in), 6 LE (in), 7 D IN (in), 8 VL- (power), 9 V O (out), 10 RFB (in), 11 SJ (in), 12 AGND (power), 13 I O (out), 14 MSB ADJ, 15 TRIM, 16 V+ (power)

## PCM61P-J
designator U?
Serial Input 18-Bit Monolithic Audio Digital-to-Analog Converter; Note: Pin 4 is No internal Connection (NC) pin.; Published: 8-Jun-2000; LatestRevisionDate: 06-Jun-2005; LatestRevisionNote: Stylized 3D Model Added.; DatasheetVersion: 1994; PackageVersion: revF; PackageReference: ZZ180; Publisher: Altium Limited; PackageDescription: DIP, Plastic; 16 Leads; Row Spacing 7.62 mm; Pitch 2.54 mm; Code_JEDEC: MS-001-BB; ComponentLink1Description: Manufacturer Link; ComponentLink1URL: http://www.ti.com/
footprint ZZ180 (DIP, Plastic; 16 Leads; Row Spacing 7.62 mm; Pitch 2.54 mm)
3D model ZZ180 (DIP, Plastic; 16 Leads; Row Spacing 7.62 mm; Pitch 2.54 mm)
pins: 1 V- (power), 2 LGND (power), 3 VL+ (power), 4 NC, 5 CLK (in), 6 LE (in), 7 D IN (in), 8 VL- (power), 9 V O (out), 10 RFB (in), 11 SJ (in), 12 AGND (power), 13 I O (out), 14 MSB ADJ, 15 TRIM, 16 V+ (power)

## PCM61P-K
designator U?
Serial Input 18-Bit Monolithic Audio Digital-to-Analog Converter; Note: Pin 4 is No internal Connection (NC) pin.; Published: 8-Jun-2000; LatestRevisionDate: 06-Jun-2005; LatestRevisionNote: Stylized 3D Model Added.; DatasheetVersion: 1994; PackageVersion: revF; PackageReference: ZZ180; Publisher: Altium Limited; PackageDescription: DIP, Plastic; 16 Leads; Row Spacing 7.62 mm; Pitch 2.54 mm; Code_JEDEC: MS-001-BB; ComponentLink1Description: Manufacturer Link; ComponentLink1URL: http://www.ti.com/
footprint ZZ180 (DIP, Plastic; 16 Leads; Row Spacing 7.62 mm; Pitch 2.54 mm)
3D model ZZ180 (DIP, Plastic; 16 Leads; Row Spacing 7.62 mm; Pitch 2.54 mm)
pins: 1 V- (power), 2 LGND (power), 3 VL+ (power), 4 NC, 5 CLK (in), 6 LE (in), 7 D IN (in), 8 VL- (power), 9 V O (out), 10 RFB (in), 11 SJ (in), 12 AGND (power), 13 I O (out), 14 MSB ADJ, 15 TRIM, 16 V+ (power)